# EAGLE library part MSP430F5528 (library TuansLib)
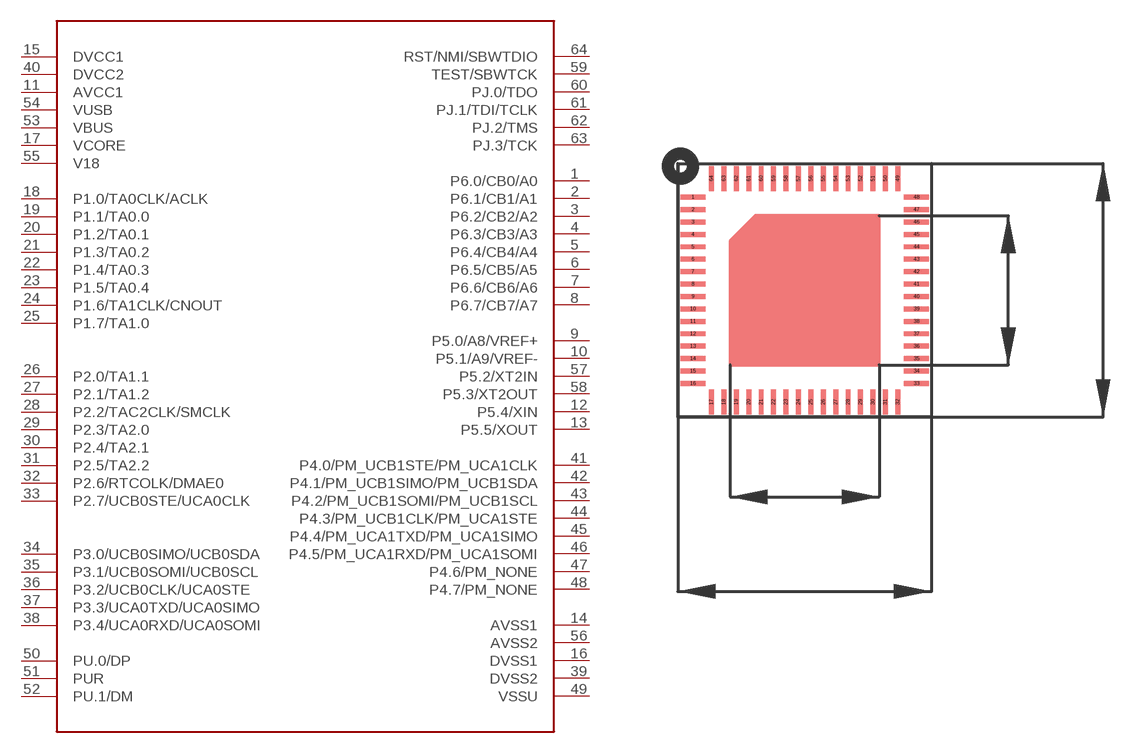
[diagram p6: symbol with the pads of VQFN_RGC_64PIN; footprint VQFN_RGC_64PIN]

Designator prefix -

## MSP430F5528  [VQFN_RGC_64PIN]
1  P6.0/CB0/A0
2  P6.1/CB1/A1
3  P6.2/CB2/A2
4  P6.3/CB3/A3
5  P6.4/CB4/A4
6  P6.5/CB5/A5
7  P6.6/CB6/A6
8  P6.7/CB7/A7
9  P5.0/A8/VREF+
10  P5.1/A9/VREF-
11  AVCC1
12  P5.4/XIN
13  P5.5/XOUT
14  AVSS1
15  DVCC1
16  DVSS1
17  VCORE
18  P1.0/TA0CLK/ACLK
19  P1.1/TA0.0
20  P1.2/TA0.1
21  P1.3/TA0.2
22  P1.4/TA0.3
23  P1.5/TA0.4
24  P1.6/TA1CLK/CNOUT
25  P1.7/TA1.0
26  P2.0/TA1.1
27  P2.1/TA1.2
28  P2.2/TAC2CLK/SMCLK
29  P2.3/TA2.0
30  P2.4/TA2.1
31  P2.5/TA2.2
32  P2.6/RTCOLK/DMAE0
33  P2.7/UCB0STE/UCA0CLK
34  P3.0/UCB0SIMO/UCB0SDA
35  P3.1/UCB0SOMI/UCB0SCL
36  P3.2/UCB0CLK/UCA0STE
37  P3.3/UCA0TXD/UCA0SIMO
38  P3.4/UCA0RXD/UCA0SOMI
39  DVSS2
40  DVCC2
41  P4.0/PM_UCB1STE/PM_UCA1CLK
42  P4.1/PM_UCB1SIMO/PM_UCB1SDA
43  P4.2/PM_UCB1SOMI/PM_UCB1SCL
44  P4.3/PM_UCB1CLK/PM_UCA1STE
45  P4.4/PM_UCA1TXD/PM_UCA1SIMO
46  P4.5/PM_UCA1RXD/PM_UCA1SOMI
47  P4.6/PM_NONE
48  P4.7/PM_NONE
49  VSSU
50  PU.0/DP
51  PUR
52  PU.1/DM
53  VBUS
54  VUSB
55  V18
56  AVSS2
57  P5.2/XT2IN
58  P5.3/XT2OUT
59  TEST/SBWTCK
60  PJ.0/TDO
61  PJ.1/TDI/TCLK
62  PJ.2/TMS
63  PJ.3/TCK
64  RST/NMI/SBWTDIO

## Footprint VQFN_RGC_64PIN (pad centres in mm)
smd 1 x 0.2: 1 0,8.25; 2 0,7.75; 3 0,7.25; 4 0,6.75; 5 0,6.25; 6 0,5.75; 7 0,5.25; 8 0,4.75; 9 0,4.25; 10 0,3.75; 11 0,3.25; 12 0,2.75; 13 0,2.25; 14 0,1.75; 15 0,1.25; 16 0,0.75; 33 9,0.75; 34 9,1.25; 35 9,1.75; 36 9,2.25; 37 9,2.75; 38 9,3.25; 39 9,3.75; 40 9,4.25; 41 9,4.75; 42 9,5.25; 43 9,5.75; 44 9,6.25; 45 9,6.75; 46 9,7.25; 47 9,7.75; 48 9,8.25
smd 0.2 x 1: 17 0.75,0; 18 1.25,0; 19 1.75,0; 20 2.25,0; 21 2.75,0; 22 3.25,0; 23 3.75,0; 24 4.25,0; 25 4.75,0; 26 5.25,0; 27 5.75,0; 28 6.25,0; 29 6.75,0; 30 7.25,0; 31 7.75,0; 32 8.25,0; 49 8.25,9; 50 7.75,9; 51 7.25,9; 52 6.75,9; 53 6.25,9; 54 5.75,9; 55 5.25,9; 56 4.75,9; 57 4.25,9; 58 3.75,9; 59 3.25,9; 60 2.75,9; 61 2.25,9; 62 1.75,9; 63 1.25,9; 64 0.75,9